# Altium schematic symbol library AD8603.SchLib: 1 symbol
Pins are listed as number, name and electrical type; pins without a type are passive.

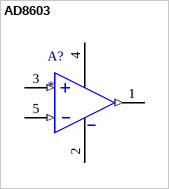
[diagram p0: symbol AD8603]

## AD8603
designator A?
Precision Micropower RRIO Operational Amplifier
pins: 1 OUT (out) "Output", 2 V- (power) "Negative Supply Voltage", 3 +IN (in) "Positive Input", 4 V+ (power) "Positive Supply Voltage", 5 -IN (in) "Negative Input"